# EAGLE library part 520244-4 (library con-amp_edit)
AMP connector
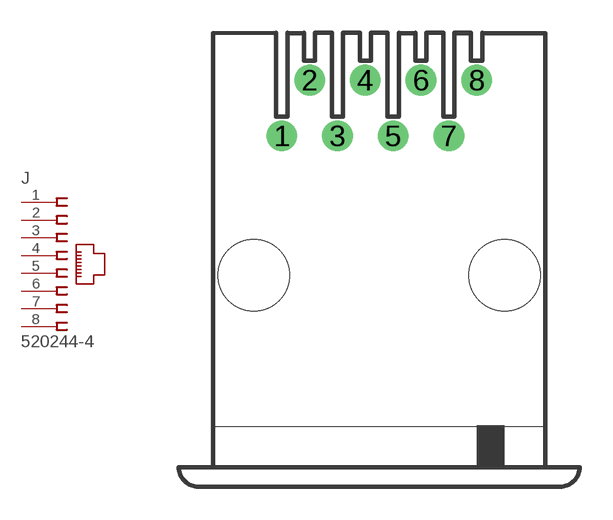
[diagram p23: symbol with the pads of 520244-4; footprint 520244-4]

Designator prefix J

## 520244-4  [520244-4]
1  1  pas
2  2  pas
3  3  pas
4  4  pas
5  5  pas
6  6  pas
7  7  pas
8  8  pas

## Footprint 520244-4 (pad centres in mm)
Modular Jack Keyed with Flanged
drill 0.889: 1 -4.445,6.35; 2 -3.175,8.89; 3 -1.905,6.35; 4 -0.635,8.89; 5 0.635,6.35; 6 1.905,8.89; 7 3.175,6.35; 8 4.445,8.89
hole 3.251 at -5.715,0
hole 3.251 at 5.715,0